# Altium schematic symbol library Xilinx_XCKU040_Ext_Board.SCHLIB: 21 symbols
Pins are listed as number, name and electrical type; pins without a type are passive.

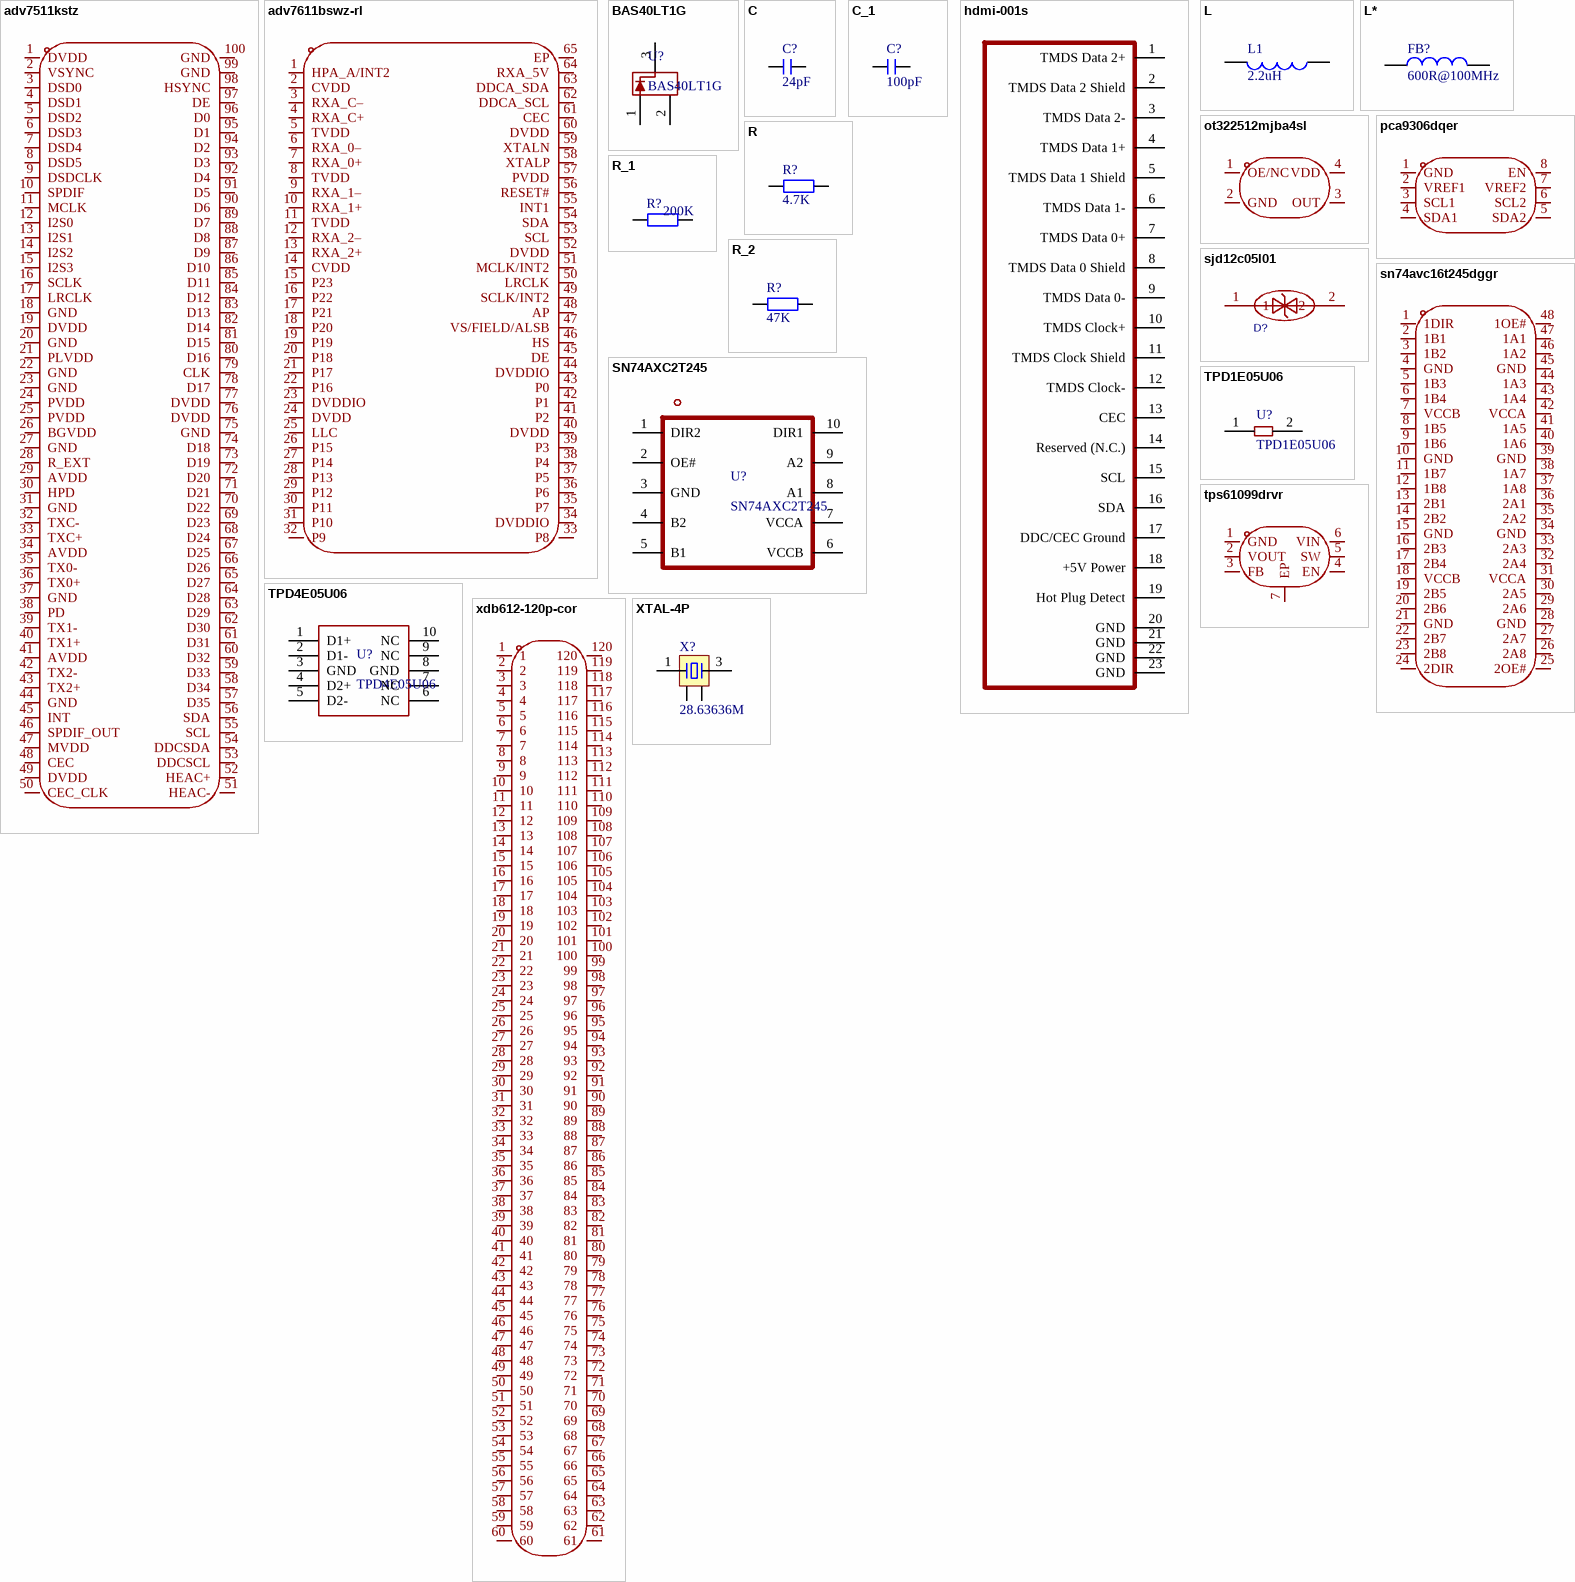
[diagram p0: symbols adv7511kstz to XTAL-4P]

## adv7511kstz
designator U?  (value not drawn)
接口类型:I2S；I2C;数据速率:-;; Manufacturer: ADI(亚德诺); AddInBom: yes; ModelId: 469e6cc70557486dbd01fd12ff814964; ModelName: LQFP-100_L14.0-W14.0-H1.4-LS16.0-P0.50; ModelTransform: 629.92,629.92,0,0,0,0,0,0,0; Voltage - Supply: 1.8V~3.3V; Symbol: ADV7511KSTZ; LCSC Part Name: 225 MHz, 高性能HDMI发射器带ARC; SupplierPart: C179459; ManufacturerPart: ADV7511KSTZ; Supplier Footprint: LQFP-100(14x14); JLCPCB Part Class: Extended Part; Datasheet: https://item.szlcsc.com/datasheet/ADV7511KSTZ/190853.html; Supplier: LCSC; ConvertToPcb: yes; FootprintName: LQFP-100_L14.0-W14.0-P0.50-LS16.0-BL; Interface: I2S；I2C; Data Rate: -; Operating Temperature: 0℃~+70℃; Supply Current: -; Quiescent Supply Current: -; Features: 中断生成
footprint LQFP-100_L14.0-W14.0-P0.50-LS16.0-BL
pins: 1 DVDD, 2 VSYNC, 3 DSD0, 4 DSD1, 5 DSD2, 6 DSD3, 7 DSD4, 8 DSD5, 9 DSDCLK, 10 SPDIF, 11 MCLK, 12 I2S0, 13 I2S1, 14 I2S2, 15 I2S3, 16 SCLK, 17 LRCLK, 18 GND, 19 DVDD, 20 GND, 21 PLVDD, 22 GND, 23 GND, 24 PVDD, 25 PVDD, 26 BGVDD, 27 GND, 28 R_EXT, 29 AVDD, 30 HPD, 31 GND, 32 TXC-, 33 TXC+, 34 AVDD, 35 TX0-, 36 TX0+, 37 GND, 38 PD, 39 TX1-, 40 TX1+, 41 AVDD, 42 TX2-, 43 TX2+, 44 GND, 45 INT, 46 SPDIF_OUT, 47 MVDD, 48 CEC, 49 DVDD, 50 CEC_CLK, 51 HEAC-, 52 HEAC+, 53 DDCSCL, 54 DDCSDA, 55 SCL, 56 SDA, 57 D35, 58 D34, 59 D33, 60 D32, 61 D31, 62 D30, 63 D29, 64 D28, 65 D27, 66 D26, 67 D25, 68 D24, 69 D23, 70 D22, 71 D21, 72 D20, 73 D19, 74 D18, 75 GND, 76 DVDD, 77 DVDD, 78 D17, 79 CLK, 80 D16, 81 D15, 82 D14, 83 D13, 84 D12, 85 D11, 86 D10, 87 D9, 88 D8, 89 D7, 90 D6, 91 D5, 92 D4, 93 D3, 94 D2, 95 D1, 96 D0, 97 DE, 98 HSYNC, 99 GND, 100 GND

## adv7611bswz-rl
designator U?  (value not drawn)
ADV7611提供汽车级、专业级(无HDCP)和工业级三种版本，工作温度范围为 -40 °C 至 +85 °C。是一款高质量、单输入HDMI接收器，内置HDMI兼容型接收器，支持HDMI 1.4a规定的所有强制性3D电视格式，和最高UXGA 60 Hz、8位的分辨率。它集成一个CEC控制器，支持CDC特性。具有一个音频输出端口，用于输出从HDMI流提取的音频数据。HDMI接收器具有高级静音控制器，可消除音频输出中的外来声频噪声。支持来自I2S串行器的音频流(两个音频通道)、来自S/PDIF串行器的音频流(; Manufacturer: ADI(亚德诺); AddInBom: yes; ModelId: cd9de06618c44fcf82654c43a457f83c; ModelName: LQFP-64_L10.0-W10.0-H1.4-LS12.0-P0.50; ModelTransform: 472.441,472.441,0,270,0,0,0,0,0; Symbol: ADV7611BSWZ-RL; LCSC Part Name: 低功耗165 MHz HDMI接收器; SupplierPart: C706706; ManufacturerPart: ADV7611BSWZ-RL; Supplier Footprint: LQFP-64(10x10); JLCPCB Part Class: Extended Part; Datasheet: https://item.szlcsc.com/datasheet/ADV7611BSWZ-RL/743801.html; Supplier: LCSC; ConvertToPcb: yes; FootprintName: LQFP-64_L10.0-W10.0-P0.50-LS12.0-TL-EP5.3
footprint LQFP-64_L10.0-W10.0-P0.50-LS12.0-TL-EP5.3
pins: 1 HPA_A/INT2, 2 CVDD, 3 RXA_C–, 4 RXA_C+, 5 TVDD, 6 RXA_0–, 7 RXA_0+, 8 TVDD, 9 RXA_1–, 10 RXA_1+, 11 TVDD, 12 RXA_2–, 13 RXA_2+, 14 CVDD, 15 P23, 16 P22, 17 P21, 18 P20, 19 P19, 20 P18, 21 P17, 22 P16, 23 DVDDIO, 24 DVDD, 25 LLC, 26 P15, 27 P14, 28 P13, 29 P12, 30 P11, 31 P10, 32 P9, 33 P8, 34 DVDDIO, 35 P7, 36 P6, 37 P5, 38 P4, 39 P3, 40 DVDD, 41 P2, 42 P1, 43 P0, 44 DVDDIO, 45 DE, 46 HS, 47 VS/FIELD/ALSB, 48 AP, 49 SCLK/INT2, 50 LRCLK, 51 MCLK/INT2, 52 DVDD, 53 SCL, 54 SDA, 55 INT1, 56 RESET#, 57 PVDD, 58 XTALP, 59 XTALN, 60 DVDD, 61 CEC, 62 DDCA_SCL, 63 DDCA_SDA, 64 RXA_5V, 65 EP

## BAS40LT1G
designator U?
肖特基二极管
footprint BAS40LT1G
pins: 1, 2, 3

## C
designator C?, comment 24pF
贴片电容; BOM名称: 无极性贴片电容; 淘宝ID: 封装库来自淘宝 ID：黄晶宝石; 联系售后: https://shop463601444.taobao.com
footprint C 0201_L (无极性贴片电容)
footprint C 0402_L (无极性贴片电容)
footprint C 0603_L (无极性贴片电容)
footprint C 0805_L (无极性贴片电容)
footprint C 1206_L (无极性贴片电容)
footprint C 1210_L (无极性贴片电容)
footprint C 1808_L (无极性贴片电容)
footprint C 1812_L (无极性贴片电容)
footprint C 1825_L (无极性贴片电容)
footprint C 2225_L (无极性贴片电容)
footprint C 0201_M (无极性贴片电容)
footprint C 0402_M (无极性贴片电容)
footprint C 0603_M (无极性贴片电容)
footprint C 0805_M (无极性贴片电容)
footprint C 1206_M (无极性贴片电容)
footprint C 1210_M (无极性贴片电容)
footprint C 1808_M (无极性贴片电容)
footprint C 1812_M (无极性贴片电容)
footprint C 1825_M (无极性贴片电容)
footprint C 2225_M (无极性贴片电容)
pins: 1, 2

## C_1
designator C?, comment 100pF
贴片电容; BOM名称: 无极性贴片电容; 淘宝ID: 封装库来自淘宝 ID：黄晶宝石; 联系售后: https://shop463601444.taobao.com
footprint C 0201_L (无极性贴片电容)
footprint C 0402_L (无极性贴片电容)
footprint C 0603_L (无极性贴片电容)
footprint C 0805_L (无极性贴片电容)
footprint C 1206_L (无极性贴片电容)
footprint C 1210_L (无极性贴片电容)
footprint C 1808_L (无极性贴片电容)
footprint C 1812_L (无极性贴片电容)
footprint C 1825_L (无极性贴片电容)
footprint C 2225_L (无极性贴片电容)
footprint C 0201_M (无极性贴片电容)
footprint C 0402_M (无极性贴片电容)
footprint C 0603_M (无极性贴片电容)
footprint C 0805_M (无极性贴片电容)
footprint C 1206_M (无极性贴片电容)
footprint C 1210_M (无极性贴片电容)
footprint C 1808_M (无极性贴片电容)
footprint C 1812_M (无极性贴片电容)
footprint C 1825_M (无极性贴片电容)
footprint C 2225_M (无极性贴片电容)
pins: 1, 2

## hdmi-001s
designator USB?  (value not drawn)
19PIN A型前插后贴HDMI插座 铜壳; Manufacturer: XUNPU(讯普); AddInBom: yes; ModelId: 95350f9f774e4f059b8c605506db97f9; ModelName: HDMI-SMD_HDMI-001S; ModelTransform: 590.5878,468.503,0,0,0,0,0,-79.567,-85.039; Connector Type: HDMI-A; Gender: 母; Symbol: HDMI-001S; LCSC Part Name: HDMI-A 母 19P; SupplierPart: C720616; ManufacturerPart: HDMI-001S; Supplier Footprint: SMD; JLCPCB Part Class: Extended Part; Datasheet: https://item.szlcsc.com/datasheet/HDMI-001S/763623.html; Supplier: LCSC; ConvertToPcb: yes; FootprintName: HDMI-SMD_HDMI-001S; Number of Pins: 19P; Mounting Type: 卧贴; Current Rating: -; Voltage Rating: -; Operating Temperature: -
footprint HDMI-SMD_HDMI-001S
pins: 1 TMDS Data 2+, 2 TMDS Data 2 Shield, 3 TMDS Data 2-, 4 TMDS Data 1+, 5 TMDS Data 1 Shield, 6 TMDS Data 1-, 7 TMDS Data 0+, 8 TMDS Data 0 Shield, 9 TMDS Data 0-, 10 TMDS Clock+, 11 TMDS Clock Shield, 12 TMDS Clock-, 13 CEC, 14 Reserved (N.C.), 15 SCL, 16 SDA, 17 DDC/CEC Ground, 18 +5V Power, 19 Hot Plug Detect, 20 GND, 21 GND, 22 GND, 23 GND

## L
designator L1, comment 2.2uH
小功率贴片电感; 淘宝ID: 封装库来自淘宝 ID：黄晶宝石; BOM名称: 小功率贴片电感; 联系售后: https://shop463601444.taobao.com
footprint L 0402 (小功率贴片电感)
footprint L 0603 (小功率贴片电感)
footprint L 0805 (小功率贴片电感)
footprint L 1206 (小功率贴片电感)
footprint L 1210 (小功率贴片电感)
footprint L 1806 (小功率贴片电感)
footprint L 1812 (小功率贴片电感)
footprint L (电感)
pins: 1, 2

## L*
designator FB?, comment 600R@100MHz
磁珠; BOM名称: 小功率贴片电感; 淘宝ID: 封装库来自淘宝 ID：黄晶宝石; 联系售后: https://shop463601444.taobao.com
footprint L 0402 (小功率贴片电感)
footprint L 0603 (小功率贴片电感)
footprint L 0805 (小功率贴片电感)
footprint L 1206 (小功率贴片电感)
footprint L 1210 (小功率贴片电感)
footprint L 1806 (小功率贴片电感)
footprint L 1812 (小功率贴片电感)
pins: 1, 2

## ot322512mjba4sl
designator X?  (value not drawn)
频率:12MHz;常温频差:±10ppm;输出模式:CMOS;工作电压:1.8V~3.3V;频率稳定度:±20ppm;; Manufacturer: YXC(扬兴晶振); AddInBom: yes; ModelId: ae22b8d143894765bc8100c37cb6356f; ModelName: OSC-SMD_4P-L3.2-W2.5-H1.0; ModelTransform: 125.984,98.425,0,0,0,0,0,0,0; Value: 12MHz; Normal temperature Frequency Tolerance: ±10ppm; Output Type: CMOS; Frequency Stability: ±20ppm; Symbol: OT322512MJBA4SL; LCSC Part Name: YSO110TR 12MHZ 1.8V-3.3V ±10PPM -40~85℃ (±20PPM) CMOS; SupplierPart: C725989; ManufacturerPart: OT322512MJBA4SL; Supplier Footprint: SMD3225-4P; JLCPCB Part Class: Extended Part; Datasheet: https://item.szlcsc.com/datasheet/OT322512MJBA4SL/772573.html; Supplier: LCSC; ConvertToPcb: yes; FootprintName: OSC-SMD_4P-L3.2-W2.5-BL; Voltage - Supply: 1.8V~3.3V; Operating Temperature: -40℃~+85℃
footprint OSC-SMD_4P-L3.2-W2.5-BL
pins: 1 OE/NC, 2 GND, 3 OUT, 4 VDD

## pca9306dqer
designator U?  (value not drawn)
数据速率:-;工作电压(VCCA):-;工作电压(VCCB):-;元件数:-;每个电路通道数:2;; Manufacturer: TI(德州仪器); AddInBom: yes; ModelId: ca9e004a924f4dd0ba6981db82d16128; ModelName: X2SON-8_L1.4-W1.0-H0.4-P0.35-BL; ModelTransform: 55.118,40.05354,0,180,0,0,0.003,0.603,0; Channel Type: 双向; Number of Circuits: 2; Output Type: 开漏; Symbol: PCA9306DQER; LCSC Part Name: 双路双向I²C总线和SMBus电压电平转换器; SupplierPart: C440032; ManufacturerPart: PCA9306DQER; Supplier Footprint: X2-SON-8(0.8x1.4); JLCPCB Part Class: Extended Part; Datasheet: https://www.ti.com/cn/lit/gpn/pca9306; Supplier: LCSC; ConvertToPcb: yes; FootprintName: X2SON-8_L1.4-W1.0-P0.35-BL; Input Signal: -; Output Signal: -; Data Rate: -; Voltage - Supply(VCCA): -; Voltage - Supply(VCCB): -; Number of Elements: -; Operating Temperature: -40℃~+85℃; Features: -
footprint X2SON-8_L1.4-W1.0-P0.35-BL
footprint X2SON-8_L1.4-W1.0-P0.35-BL
pins: 1 GND, 2 VREF1, 3 SCL1, 4 SDA1, 5 SDA2, 6 SCL2, 7 VREF2, 8 EN

## R
designator R?, comment 4.7K
贴片电阻; 版权归属: 来自淘宝 ID：黄晶宝石; BOM名称: 贴片电阻; 联系售后: https://shop463601444.taobao.com
footprint R 0201_L (1/20W贴片电阻)
footprint R 0402_L (1/16W贴片电阻)
footprint R 0603_L (1/10W贴片电阻)
footprint R 0805_L (1/8W贴片电阻)
footprint R 1206_L (1/4W贴片电阻)
footprint R 1210_L (1/3W贴片电阻)
footprint R 1812_L (1/2W贴片电阻)
footprint R 2010_L (3/4W贴片电阻)
footprint R 2512_L (1W贴片电阻)
footprint R 0201_M (1/20W贴片电阻)
footprint R 0402_M (1/16W贴片电阻)
footprint R 0603_M (1/10W贴片电阻)
footprint R 0805_M (1/8W贴片电阻)
footprint R 1206_M (1/4W贴片电阻)
footprint R 1210_M (1/3W贴片电阻)
footprint R 1812_M (1/2W贴片电阻)
footprint R 2010_M (3/4W贴片电阻)
footprint R 2512_M (1W贴片电阻)
pins: 1, 2

## R_1
designator R?, comment 200K
贴片电阻; 版权归属: 来自淘宝 ID：黄晶宝石; BOM名称: 贴片电阻; 联系售后: https://shop463601444.taobao.com
footprint R 0201_L (1/20W贴片电阻)
footprint R 0402_L (1/16W贴片电阻)
footprint R 0603_L (1/10W贴片电阻)
footprint R 0805_L (1/8W贴片电阻)
footprint R 1206_L (1/4W贴片电阻)
footprint R 1210_L (1/3W贴片电阻)
footprint R 1812_L (1/2W贴片电阻)
footprint R 2010_L (3/4W贴片电阻)
footprint R 2512_L (1W贴片电阻)
footprint R 0201_M (1/20W贴片电阻)
footprint R 0402_M (1/16W贴片电阻)
footprint R 0603_M (1/10W贴片电阻)
footprint R 0805_M (1/8W贴片电阻)
footprint R 1206_M (1/4W贴片电阻)
footprint R 1210_M (1/3W贴片电阻)
footprint R 1812_M (1/2W贴片电阻)
footprint R 2010_M (3/4W贴片电阻)
footprint R 2512_M (1W贴片电阻)
pins: 1, 2

## R_2
designator R?, comment 47K
贴片电阻; 版权归属: 来自淘宝 ID：黄晶宝石; BOM名称: 贴片电阻; 联系售后: https://shop463601444.taobao.com
footprint R 0201_L (1/20W贴片电阻)
footprint R 0402_L (1/16W贴片电阻)
footprint R 0603_L (1/10W贴片电阻)
footprint R 0805_L (1/8W贴片电阻)
footprint R 1206_L (1/4W贴片电阻)
footprint R 1210_L (1/3W贴片电阻)
footprint R 1812_L (1/2W贴片电阻)
footprint R 2010_L (3/4W贴片电阻)
footprint R 2512_L (1W贴片电阻)
footprint R 0201_M (1/20W贴片电阻)
footprint R 0402_M (1/16W贴片电阻)
footprint R 0603_M (1/10W贴片电阻)
footprint R 0805_M (1/8W贴片电阻)
footprint R 1206_M (1/4W贴片电阻)
footprint R 1210_M (1/3W贴片电阻)
footprint R 1812_M (1/2W贴片电阻)
footprint R 2010_M (3/4W贴片电阻)
footprint R 2512_M (1W贴片电阻)
pins: 1, 2

## sjd12c05l01
designator D?  (value not drawn)
极性:双向;反向截止电压(Vrwm):5V;钳位电压:9.2V;峰值脉冲电流(Ipp):21.8A;峰值脉冲功率(Ppp):1kW@8/20us;击穿电压(VBR):6.4V;; Manufacturer: Brightking(君耀电子); AddInBom: yes; ModelId: d105299b3871451c86f679efef28ff8f; ModelName: SOD-123FL_L2.8-W1.8-LS3.7-BI; ModelTransform: 145.669,70.866,0,0,0,0,0,0,0; Polarity: 双向; Reverse Stand-Off Voltage (Vrwm): 5V; Clamping Voltage: 9.2V; Peak Pulse Current (Ipp): 21.8A; Voltage - Breakdown: 6.4V; Reverse Leakage Current (Ir): 800uA; Number of Channels: 单路; level of protection: IEC 61000-4-2; Type: ESD; Symbol: SJD12C05L01; LCSC Part Name: 双向ESD 5V截止 峰值脉冲电流：21.8A; SupplierPart: C86431; ManufacturerPart: SJD12C05L01; Supplier Footprint: SOD-123S; JLCPCB Part Class: Extended Part; Datasheet: https://item.szlcsc.com/datasheet/SJD12C05L01/87608.html; Supplier: LCSC; ConvertToPcb: yes; FootprintName: SOD-123FL_L2.8-W1.8-LS3.7-BI; Peak Pulse Power Dissipation (Ppp): 1kW@8/20us; Operating Temperature: -55℃~+150℃
footprint SOD-123FL_L2.8-W1.8-LS3.7-BI
pins: 1, 2

## sn74avc16t245dggr
designator U?  (value not drawn)
SN74AVC16T245 具有可配置电压转换和三态输出的 16 位双电源总线收发器; Manufacturer: TI(德州仪器); AddInBom: yes; ModelId: 3630bc8bc65c4ae4913ce685d85b0283; ModelName: TSSOP-48_L12.6-W6.1-H1.0-LS8.1-P0.50; ModelTransform: 318.898,496.063,0,90,0,0,0,0.0045,0; Symbol: SN74AVC16T245DGGR; LCSC Part Name: 具备可配置电平转换/电压转换功能和三态输出的16位双电源总线收发器; SupplierPart: C148481; ManufacturerPart: SN74AVC16T245DGGR; Supplier Footprint: TSSOP-48-6.2mm; JLCPCB Part Class: Extended Part; Datasheet: https://www.ti.com/cn/lit/gpn/sn74avc16t245; Supplier: LCSC; ConvertToPcb: yes; FootprintName: TSSOP-48_L12.6-W6.2-P0.50-LS8.1-BL
footprint TSSOP-48_L12.6-W6.2-P0.50-LS8.1-BL
pins: 1 1DIR, 2 1B1, 3 1B2, 4 GND, 5 1B3, 6 1B4, 7 VCCB, 8 1B5, 9 1B6, 10 GND, 11 1B7, 12 1B8, 13 2B1, 14 2B2, 15 GND, 16 2B3, 17 2B4, 18 VCCB, 19 2B5, 20 2B6, 21 GND, 22 2B7, 23 2B8, 24 2DIR, 25 2OE#, 26 2A8, 27 2A7, 28 GND, 29 2A6, 30 2A5, 31 VCCA, 32 2A4, 33 2A3, 34 GND, 35 2A2, 36 2A1, 37 1A8, 38 1A7, 39 GND, 40 1A6, 41 1A5, 42 VCCA, 43 1A4, 44 1A3, 45 GND, 46 1A2, 47 1A1, 48 1OE#

## SN74AXC2T245
designator U?
footprint SN74AXC2T245
pins: 1 DIR2, 2 OE#, 3 GND, 4 B2, 5 B1, 6 VCCB, 7 VCCA, 8 A1, 9 A2, 10 DIR1

## TPD1E05U06
designator U?
单通道ESD
footprint TPD1E05U06
pins: 1 IO, 2 GND

## TPD4E05U06
designator U?
TVS 5V ESD
footprint TPD4E05U06DQAR (TVS 5V ESD)
pins: 1 D1+, 2 D1-, 3 GND, 4 D2+, 5 D2-, 6 NC, 7 NC, 8 GND, 9 NC, 10 NC

## tps61099drvr
designator U?  (value not drawn)
功能类型:升压型;工作电压:700mV~5.5V;输出电压:1.8V~5.5V;输出电流:-;输出类型:可调;; Manufacturer: TI(德州仪器); AddInBom: yes; ModelId: 521c6d8f59ad4736925338f4a59f8ef4; ModelName: WSON-6_L2.0-W2.0-H0.8-P0.65; ModelTransform: 79.527,78.74,0,0,0,0,0,0,0; Function: 升压型; Synchronous Rectifier: 是; Number of Outputs: 1; Topology: 升压式; Quiescent Current: 1uA; Switch tube (built-in/external): 内置; Output Type: 可调; Symbol: TPS61099DRVR; LCSC Part Name: 升压型 700mV~5.5V; SupplierPart: C2842395; ManufacturerPart: TPS61099DRVR; Supplier Footprint: WSON-6-EP(2x2); JLCPCB Part Class: Extended Part; Datasheet: https://www.ti.com/cn/lit/gpn/tps61099; Supplier: LCSC; ConvertToPcb: yes; FootprintName: WSON-6_L2.0-W2.0-P0.65-TL-EP; Voltage - Supply: 700mV~5.5V; Output Voltage: 1.8V~5.5V; Output Current: -; Frequency - Switching: -; Operating Temperature: -40℃~+150℃@(TJ); Features: 轻载高效模式；逐波限流；过流保护；负载断开
footprint WSON-6_L2.0-W2.0-P0.65-TL-EP
pins: 1 GND, 2 VOUT, 3 FB, 4 EN, 5 SW, 6 VIN, 7 EP

## xdb612-120p-cor
designator CN?  (value not drawn)
PIN总数:120P;间距:0.8mm;安装方式:立贴;排数:2;额定电流:500mA;工作温度:-45℃~+80℃;; Manufacturer: LX(连欣科技); AddInBom: yes; ModelId: 534587499f204ed784a0d3d633a8bbcf; ModelName: CONN-SMD_120P-P0.80_THD0812F-120BV-GF; ModelTransform: 2118.10616,236.22,0,0,0,0,0.002,0,-27.559; Pitch: 0.8mm; Current Rating: 500mA; Symbol: XDB612-120P-COR; LCSC Part Name: AMP宏致同款BTB板对板PH0.8-2*60P/120PIN母座 合高5.0MM; SupplierPart: C7527742; ManufacturerPart: XDB612-120P-COR; Supplier Footprint: SMD,P=0.8mm; JLCPCB Part Class: Extended Part; Datasheet: https://item.szlcsc.com/datasheet/XDB612-120P-COR/8623463.html; Supplier: LCSC; ConvertToPcb: yes; FootprintName: CONN-SMD_120P-P0.80_THD0812F-120BV-GF; Number of Pins: 120P; Mounting Type: 立贴; Number of Rows: 2; Contact Material: 铜; Contact Plating: 金; Operating Temperature: -45℃~+80℃
footprint CONN-SMD_120P-P0.80_THD0812F-120BV-GF
pins: 1, 2, 3, 4, 5, 6, 7, 8, 9, 10, 11, 12, 13, 14, 15, 16, 17, 18, 19, 20, 21, 22, 23, 24, 25, 26, 27, 28, 29, 30, 31, 32, 33, 34, 35, 36, 37, 38, 39, 40, 41, 42, 43, 44, 45, 46, 47, 48, 49, 50, 51, 52, 53, 54, 55, 56, 57, 58, 59, 60, 61, 62, 63, 64, 65, 66, 67, 68, 69, 70, 71, 72, 73, 74, 75, 76, 77, 78, 79, 80, 81, 82, 83, 84, 85, 86, 87, 88, 89, 90, 91, 92, 93, 94, 95, 96, 97, 98, 99, 100, 101, 102, 103, 104, 105, 106, 107, 108, 109, 110, 111, 112, 113, 114, 115, 116, 117, 118, 119, 120

## XTAL-4P
designator X?, comment 28.63636M
4脚无源晶振; 版权归属: 源创客; BOM名称: 4脚无源晶振; 学习资源: www.ooocke.com
footprint OSC 1612-4P (1.6*1.2*0.35mm（长宽高）)
footprint OSC 2025-4P (2*2.5*0.55mm(长宽高))
footprint OSC 3225-4P (3.2*2.5*0.7mm(长宽高))
footprint OSC 4025-4P (4*2.5*0.7mm(长宽高))
footprint OSC 5032-4P (5mm*3.2mm*0.8mm(长*宽*高))
footprint OSC 6035-4P (6mm*3.5mm*1mm(长*宽*高))
footprint OSC 7050-4P (7mm*5mm*1.3mm(长*宽*高))
footprint OSC 8045-4P (8mm*4.5mm*1.6mm(长*宽*高))
footprint OSC 8045-4P-C (8mm*4.5mm*1.8mm(长*宽*高))
pins: 1, 2, 3, 4